# Altium footprint library WE-FI_7447076.PcbLib: 1 footprints
Each footprint in its own frame and in the unit in brackets; x right, y up, seen from the top. Pads: shape width x height; smd on the part's side, far side on the other; paste and mask are expansions set on the pad; w line width, h text height; cw(c..) or ccw(c..) is an arc to the next point about the centre after c.
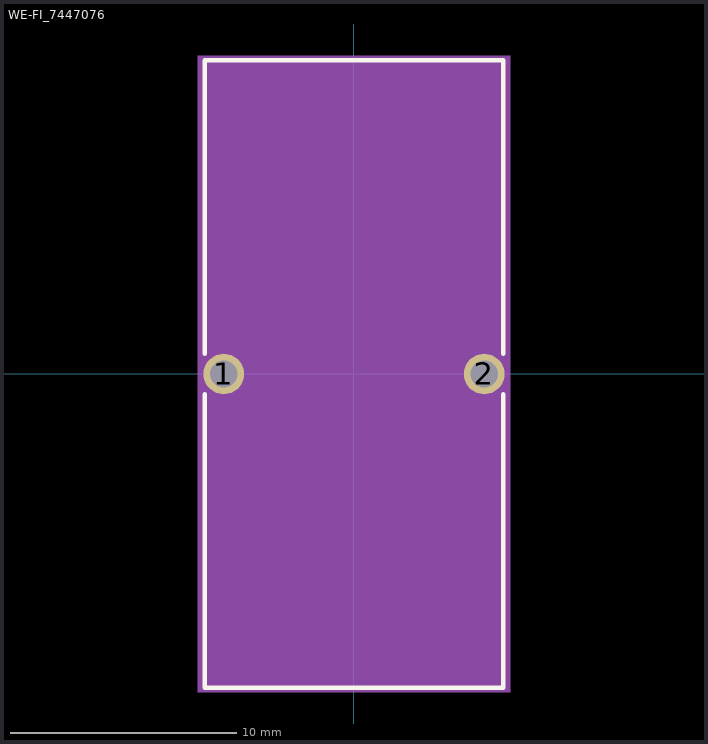
[diagram p0: the footprint, top view; thin cyan lines are the x and y axes]

## WE-FI_7447076 [mm]
pads (2):
  round 1.8 hole 1.2: 1(-5.75,0) 2(5.75,0)
Top Overlay:
  lines w0.2: -6.6,-0.9 -6.6,-13.85 6.6,-13.85 6.6,-0.9 ; -6.6,0.9 -6.6,13.85 6.6,13.85 6.6,0.9
Assembly Top:
  lines w0.1: -6.5,-13.75 -6.5,13.75 6.5,13.75 6.5,-13.75 -6.5,-13.75
Courtyard Top:
  region: 6.9,-14.05 -6.9,-14.05 -6.9,14.05 6.9,14.05
3D body "7447076+%28rev1%29.stp": height 26.02, standoff -13.69, extent -6.122,-12.56 6.376,12.559